# EAGLE library part HEADER_01X39 (library MF_Connectors)
Library: MF_Connectors Description: Header Connector with 39 Positions and 01 Rows. Use the LABEL Attribute to label the pin on the schematic and PCB. You can remove the attributes on the PCB by using the SMASH function on the part and then deleting the text.
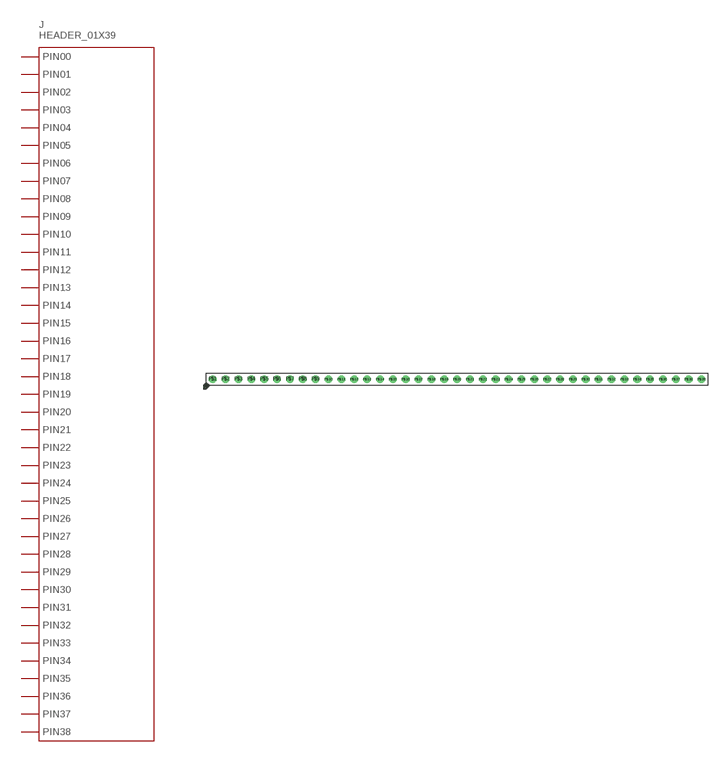
[diagram p35: symbol with the pads of PTH_2.54MM_01X39; footprint PTH_2.54MM_01X39]

Designator prefix J

## HEADER_01X39_PTH_2.5MM  [PTH_2.54MM_01X39]
P$1  PIN0
P$2  PIN1
P$3  PIN2
P$4  PIN3
P$5  PIN4
P$6  PIN5
P$7  PIN6
P$8  PIN7
P$9  PIN8
P$10  PIN9
P$11  PIN10
P$12  PIN11
P$13  PIN12
P$14  PIN13
P$15  PIN14
P$16  PIN15
P$17  PIN16
P$18  PIN17
P$19  PIN18
P$20  PIN19
P$21  PIN20
P$22  PIN21
P$23  PIN22
P$24  PIN23
P$25  PIN24
P$26  PIN25
P$27  PIN26
P$28  PIN27
P$29  PIN28
P$30  PIN29
P$31  PIN30
P$32  PIN31
P$33  PIN32
P$34  PIN33
P$35  PIN34
P$36  PIN35
P$37  PIN36
P$38  PIN37
P$39  PIN38

## Footprint PTH_2.54MM_01X39 (pad centres in mm)
Description: Package for 2.54MM Pitch Header 39 Position. Based on 4UCON 00834.
drill 1: P$1 -48.26,0; P$2 -45.72,0; P$3 -43.18,0; P$4 -40.64,0; P$5 -38.1,0; P$6 -35.56,0; P$7 -33.02,0; P$8 -30.48,0; P$9 -27.94,0; P$10 -25.4,0; P$11 -22.86,0; P$12 -20.32,0; P$13 -17.78,0; P$14 -15.24,0; P$15 -12.7,0; P$16 -10.16,0; P$17 -7.62,0; P$18 -5.08,0; P$19 -2.54,0; P$20 0,0; P$21 2.54,0; P$22 5.08,0; P$23 7.62,0; P$24 10.16,0; P$25 12.7,0; P$26 15.24,0; P$27 17.78,0; P$28 20.32,0; P$29 22.86,0; P$30 25.4,0; P$31 27.94,0; P$32 30.48,0; P$33 33.02,0; P$34 35.56,0; P$35 38.1,0; P$36 40.64,0; P$37 43.18,0; P$38 45.72,0; P$39 48.26,0